# Altium schematic symbol library WE-SD.SchLib: 12 symbols
Pins are listed as number, name and electrical type; pins without a type are passive.

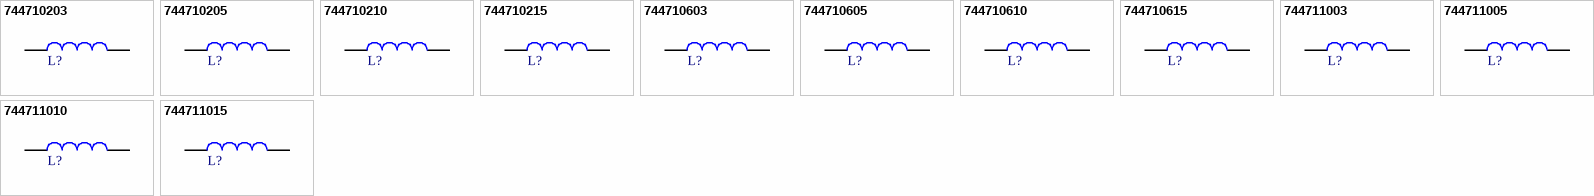
[diagram p0: symbols 744710203 to 744711015]

## 744710203
designator L?, comment 2µH  (value not drawn)
WE-SD THT Rod Core Choke, 2µH, 2.5A, 11mΩ; Manufacturer Part Number: 744710203; Manufacturer: Wurth Elektronik; Category: Filter Chokes; Match Code: WE-SD; ComponentLink1Description: Website Link; ComponentLink1URL: https://www.we-online.com/redexpert/article/744710203?ad; ComponentLink2Description: Datasheet Link; ComponentLink2URL: https://www.we-online.com/redexpert/spec/744710203?ad; Mount: Through Hole; Operating Temperature Max: 150°C; Operating Temperature Min: -40°C; Packaging: Tray; Length: 12.3mm; Width: 3.2mm; Height: 3.2mm; DC Resistance: 11mΩ; Inductance: 2µH; Rated Current: 2.5A
footprint 744710203
simulation model 744710203_2u
pins: 1, 2

## 744710205
designator L?, comment 2µH  (value not drawn)
WE-SD THT Rod Core Choke, 2µH, 5A, 6.5mΩ; Manufacturer Part Number: 744710205; Manufacturer: Wurth Elektronik; Category: Filter Chokes; Match Code: WE-SD; ComponentLink1Description: Website Link; ComponentLink1URL: https://www.we-online.com/redexpert/article/744710205?ad; ComponentLink2Description: Datasheet Link; ComponentLink2URL: https://www.we-online.com/redexpert/spec/744710205?ad; Mount: Through Hole; Operating Temperature Max: 150°C; Operating Temperature Min: -40°C; Packaging: Tray; Length: 14mm; Width: 5.9mm; Height: 5.9mm; DC Resistance: 6.5mΩ; Inductance: 2µH; Rated Current: 5A
footprint 744710205
simulation model 744710205_2u
pins: 1, 2

## 744710210
designator L?, comment 2µH  (value not drawn)
WE-SD THT Rod Core Choke, 2µH, 10A, 3.8mΩ; Manufacturer Part Number: 744710210; Manufacturer: Wurth Elektronik; Category: Filter Chokes; Match Code: WE-SD; ComponentLink1Description: Website Link; ComponentLink1URL: https://www.we-online.com/redexpert/article/744710210?ad; ComponentLink2Description: Datasheet Link; ComponentLink2URL: https://www.we-online.com/redexpert/spec/744710210?ad; Mount: Through Hole; Operating Temperature Max: 150°C; Operating Temperature Min: -40°C; Packaging: Tray; Length: 15.4mm; Width: 7.6mm; Height: 7.6mm; DC Resistance: 3.8mΩ; Inductance: 2µH; Rated Current: 10A
footprint 744710210
simulation model 744710210_2u
pins: 1, 2

## 744710215
designator L?, comment 2µH  (value not drawn)
WE-SD THT Rod Core Choke, 2µH, 15A, 1.7mΩ; Manufacturer Part Number: 744710215; Manufacturer: Wurth Elektronik; Category: Filter Chokes; Match Code: WE-SD; ComponentLink1Description: Website Link; ComponentLink1URL: https://www.we-online.com/redexpert/article/744710215?ad; ComponentLink2Description: Datasheet Link; ComponentLink2URL: https://www.we-online.com/redexpert/spec/744710215?ad; Mount: Through Hole; Operating Temperature Max: 150°C; Operating Temperature Min: -40°C; Packaging: Tray; Length: 25.7mm; Width: 10mm; Height: 10mm; DC Resistance: 1.7mΩ; Inductance: 2µH; Rated Current: 15A
footprint 744710215
simulation model 744710215_2u
pins: 1, 2

## 744710603
designator L?, comment 6µH  (value not drawn)
WE-SD THT Rod Core Choke, 6µH, 2.5A, 22mΩ; Manufacturer Part Number: 744710603; Manufacturer: Wurth Elektronik; Category: Filter Chokes; Match Code: WE-SD; ComponentLink1Description: Website Link; ComponentLink1URL: https://www.we-online.com/redexpert/article/744710603?ad; ComponentLink2Description: Datasheet Link; ComponentLink2URL: https://www.we-online.com/redexpert/spec/744710603?ad; Mount: Through Hole; Operating Temperature Max: 150°C; Operating Temperature Min: -40°C; Packaging: Tray; Length: 15.4mm; Width: 4.2mm; Height: 4.2mm; DC Resistance: 22mΩ; Inductance: 6µH; Rated Current: 2.5A
footprint 744710603
simulation model 744710603_6u
pins: 1, 2

## 744710605
designator L?, comment 6µH  (value not drawn)
WE-SD THT Rod Core Choke, 6µH, 5A, 11.7mΩ; Manufacturer Part Number: 744710605; Manufacturer: Wurth Elektronik; Category: Filter Chokes; Match Code: WE-SD; ComponentLink1Description: Website Link; ComponentLink1URL: https://www.we-online.com/redexpert/article/744710605?ad; ComponentLink2Description: Datasheet Link; ComponentLink2URL: https://www.we-online.com/redexpert/spec/744710605?ad; Mount: Through Hole; Operating Temperature Max: 150°C; Operating Temperature Min: -40°C; Packaging: Tray; Length: 20.5mm; Width: 6.9mm; Height: 6.9mm; DC Resistance: 11.7mΩ; Inductance: 6µH; Rated Current: 5A
footprint 744710605
simulation model 744710605_6u
pins: 1, 2

## 744710610
designator L?, comment 6µH  (value not drawn)
WE-SD THT Rod Core Choke, 6µH, 10A, 6.5mΩ; Manufacturer Part Number: 744710610; Manufacturer: Wurth Elektronik; Category: Filter Chokes; Match Code: WE-SD; ComponentLink1Description: Website Link; ComponentLink1URL: https://www.we-online.com/redexpert/article/744710610?ad; ComponentLink2Description: Datasheet Link; ComponentLink2URL: https://www.we-online.com/redexpert/spec/744710610?ad; Mount: Through Hole; Operating Temperature Max: 150°C; Operating Temperature Min: -40°C; Packaging: Tray; Length: 25.7mm; Width: 8.6mm; Height: 8.6mm; DC Resistance: 6.5mΩ; Inductance: 6µH; Rated Current: 10A
footprint 744710610
simulation model 744710610_6u
pins: 1, 2

## 744710615
designator L?, comment 6µH  (value not drawn)
WE-SD THT Rod Core Choke, 6µH, 15A, 3.5mΩ; Manufacturer Part Number: 744710615; Manufacturer: Wurth Elektronik; Category: Filter Chokes; Match Code: WE-SD; ComponentLink1Description: Website Link; ComponentLink1URL: https://www.we-online.com/redexpert/article/744710615?ad; ComponentLink2Description: Datasheet Link; ComponentLink2URL: https://www.we-online.com/redexpert/spec/744710615?ad; Mount: Through Hole; Operating Temperature Max: 150°C; Operating Temperature Min: -40°C; Packaging: Tray; Length: 30mm; Width: 14mm; Height: 14mm; DC Resistance: 3.5mΩ; Inductance: 6µH; Rated Current: 15A
footprint 744710615
simulation model 744710615_6u
pins: 1, 2

## 744711003
designator L?, comment 10µH  (value not drawn)
WE-SD THT Rod Core Choke, 10µH, 2.5A, 33mΩ; Manufacturer Part Number: 744711003; Manufacturer: Wurth Elektronik; Category: Filter Chokes; Match Code: WE-SD; ComponentLink1Description: Website Link; ComponentLink1URL: https://www.we-online.com/redexpert/article/744711003?ad; ComponentLink2Description: Datasheet Link; ComponentLink2URL: https://www.we-online.com/redexpert/spec/744711003?ad; Mount: Through Hole; Operating Temperature Max: 150°C; Operating Temperature Min: -40°C; Packaging: Tray; Length: 18.5mm; Width: 5.2mm; Height: 5.2mm; DC Resistance: 33mΩ; Inductance: 10µH; Rated Current: 2.5A
footprint 744711003
simulation model 744711003_10u
pins: 1, 2

## 744711005
designator L?, comment 10µH  (value not drawn)
WE-SD THT Rod Core Choke, 10µH, 5A, 15.1mΩ; Manufacturer Part Number: 744711005; Manufacturer: Wurth Elektronik; Category: Filter Chokes; Match Code: WE-SD; ComponentLink1Description: Website Link; ComponentLink1URL: https://www.we-online.com/redexpert/article/744711005?ad; ComponentLink2Description: Datasheet Link; ComponentLink2URL: https://www.we-online.com/redexpert/spec/744711005?ad; Mount: Through Hole; Operating Temperature Max: 150°C; Operating Temperature Min: -40°C; Packaging: Tray; Length: 22.5mm; Width: 6.9mm; Height: 6.9mm; DC Resistance: 15.1mΩ; Inductance: 10µH; Rated Current: 5A
footprint 744711005
simulation model 744711005_10u
pins: 1, 2

## 744711010
designator L?, comment 10µH  (value not drawn)
WE-SD THT Rod Core Choke, 10µH, 10A, 8.8mΩ; Manufacturer Part Number: 744711010; Manufacturer: Wurth Elektronik; Category: Filter Chokes; Match Code: WE-SD; ComponentLink1Description: Website Link; ComponentLink1URL: https://www.we-online.com/redexpert/article/744711010?ad; ComponentLink2Description: Datasheet Link; ComponentLink2URL: https://www.we-online.com/redexpert/spec/744711010?ad; Mount: Through Hole; Operating Temperature Max: 150°C; Operating Temperature Min: -40°C; Packaging: Tray; Length: 30.9mm; Width: 8.6mm; Height: 8.6mm; DC Resistance: 8.8mΩ; Inductance: 10µH; Rated Current: 10A
footprint 744711010
simulation model 744711010_10u
pins: 1, 2

## 744711015
designator L?, comment 10µH  (value not drawn)
WE-SD THT Rod Core Choke, 10µH, 15A, 5.7mΩ; Manufacturer Part Number: 744711015; Manufacturer: Wurth Elektronik; Category: Filter Chokes; Match Code: WE-SD; ComponentLink1Description: Website Link; ComponentLink1URL: https://www.we-online.com/redexpert/article/744711015?ad; ComponentLink2Description: Datasheet Link; ComponentLink2URL: https://www.we-online.com/redexpert/spec/744711015?ad; Mount: Through Hole; Operating Temperature Max: 150°C; Operating Temperature Min: -40°C; Packaging: Tray; Length: 30.8mm; Width: 16mm; Height: 16mm; DC Resistance: 5.7mΩ; Inductance: 10µH; Rated Current: 15A
footprint 744711015
simulation model 744711015_10u
pins: 1, 2